# Altium footprint library REALY.PcbLib: 3 footprints
Each footprint in its own frame and in the unit in brackets; x right, y up, seen from the top. Pads: shape width x height; smd on the part's side, far side on the other; paste and mask are expansions set on the pad; w line width, h text height; cw(c..) or ccw(c..) is an arc to the next point about the centre after c.
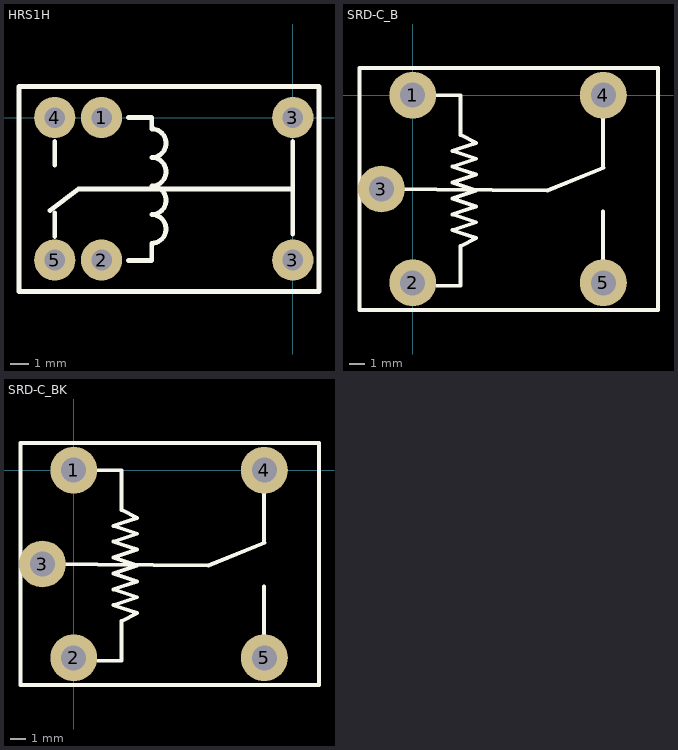
[diagram p0: the footprints below, top view; thin cyan lines are the x and y axes]

## HRS1H [mm] "单刀双投"
pads (6):
  round 2.2 hole 1.1: 1(-10.2,0) 2(-10.2,-7.6) 3(0,-7.6) 3(0,0) 4(-12.7,0) 5(-12.7,-7.6)
Top Overlay:
  lines w0.254: -12.954,-4.953 -11.43,-3.81 0,-3.81 ; -12.7,-6.35 -12.7,-5.08 ; -12.7,-2.54 -12.7,-1.27 ; -8.763,-7.62 -7.525,-7.62 -7.525,-6.7 ccw(c-7.525,-5.938) -7.525,-5.176 ccw(c-7.525,-4.414) -7.525,-3.652 ccw(c-7.525,-2.89) -7.525,-2.128 ccw(c-7.525,-1.366) -7.525,-0.604 -7.525,0 -8.763,0 ; 0,-6.223 0,-1.27 ; -14.605,-9.271 -14.605,1.651 1.397,1.651 1.397,-9.271 -14.605,-9.271
3D body "HRS1H-.STEP": height 11.8, standoff -3.3, extent -14.351,-8.933 1.149,1.567

## SRD-C_B [mm] "单刀双投"
pads (5):
  round 3 hole 1.6: 1(0,0) 2(0,-12) 3(-2,-6) 4(12.2,0) 5(12.2,-12)
Top Overlay:
  lines w0.254: -2,-6 8.636,-6.096 12.22,-4.64 ; 1.524,-12.192 3.048,-12.192 3.048,-10.668 3.048,-9.652 4.064,-9.144 2.54,-8.636 4.064,-8.128 2.54,-7.62 4.064,-7.112 2.54,-6.604 4.064,-6.096 2.54,-5.588 4.064,-5.08 2.54,-4.572 4.064,-4.064 2.54,-3.556 4.064,-3.048 3.048,-2.54 3.048,0 1.524,0 ; 12.192,-10.668 12.192,-8.636 ; 12.192,-9.144 12.192,-7.429 ; 12.192,-4.572 12.192,-1.524 ; -3.4,-13.75 -3.4,1.75 15.7,1.75 15.7,-13.75 -3.4,-13.75
3D body "SRD-C_B-.STEP": height 15.6, standoff -3.4, extent -3.479,-13.846 15.621,1.654

## SRD-C_BK [mm] "单刀双投"
pads (5):
  round 3 hole 1.6: 1(0,0) 2(0,-12) 3(-2,-6) 4(12.2,0) 5(12.2,-12)
Top Overlay:
  lines w0.254: -2,-6 8.636,-6.096 12.22,-4.64 ; 1.524,-12.192 3.048,-12.192 3.048,-10.668 3.048,-9.652 4.064,-9.144 2.54,-8.636 4.064,-8.128 2.54,-7.62 4.064,-7.112 2.54,-6.604 4.064,-6.096 2.54,-5.588 4.064,-5.08 2.54,-4.572 4.064,-4.064 2.54,-3.556 4.064,-3.048 3.048,-2.54 3.048,0 1.524,0 ; 12.192,-10.668 12.192,-8.636 ; 12.192,-9.144 12.192,-7.429 ; 12.192,-4.572 12.192,-1.524 ; -3.4,-13.75 -3.4,1.75 15.7,1.75 15.7,-13.75 -3.4,-13.75
3D body "SRD-C_BK-.STEP": height 15.6, standoff -3.4, extent -3.429,-13.846 15.671,1.654